# Altium footprint library 按钮4.PcbLib: 1 footprints
Each footprint in its own frame and in the unit in brackets; x right, y up, seen from the top. Pads: shape width x height; smd on the part's side, far side on the other; paste and mask are expansions set on the pad; w line width, h text height; cw(c..) or ccw(c..) is an arc to the next point about the centre after c.
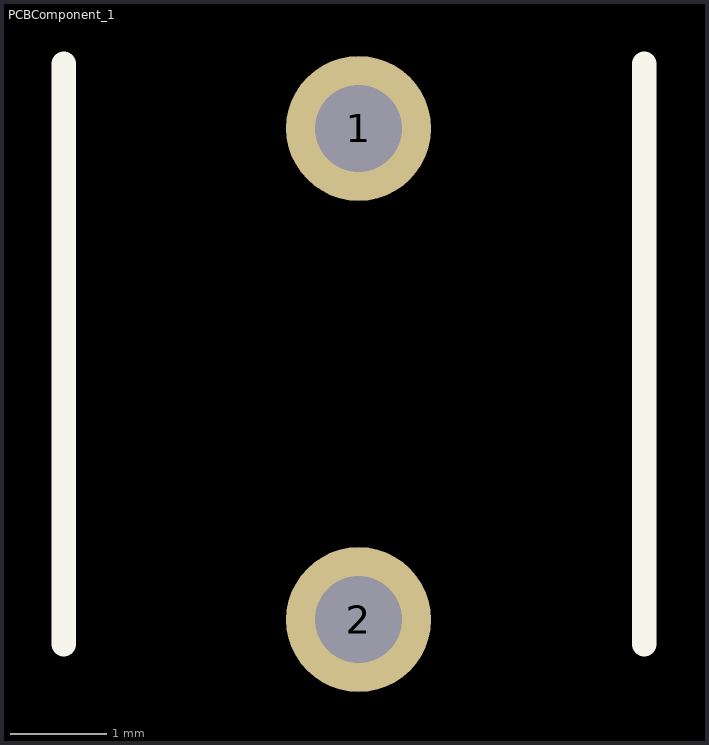
[diagram p0: the footprint, top view; thin cyan lines are the x and y axes]

## PCBComponent_1 [mm]
pads (2):
  round 1.5 hole 0.9: 1(15.24,7.874) 2(15.24,2.794)
Top Overlay:
  lines w0.254: 12.192,2.54 12.192,8.54 ; 18.192,2.54 18.192,8.54